# Altium schematic symbol library IND.Schlib: 1 symbol
Pins are listed as number, name and electrical type; pins without a type are passive.

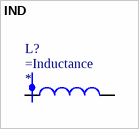
[diagram p0: symbol IND]

## IND
designator L?
INDUCTOR; Current Rating: *
pins: 1, 2